# Altium footprint library Pcb库.PcbLib: 37 footprints (part 3 of 3)
Each footprint in its own frame and in the unit in brackets; x right, y up, seen from the top. Pads: shape width x height; smd on the part's side, far side on the other; paste and mask are expansions set on the pad; w line width, h text height; cw(c..) or ccw(c..) is an arc to the next point about the centre after c.
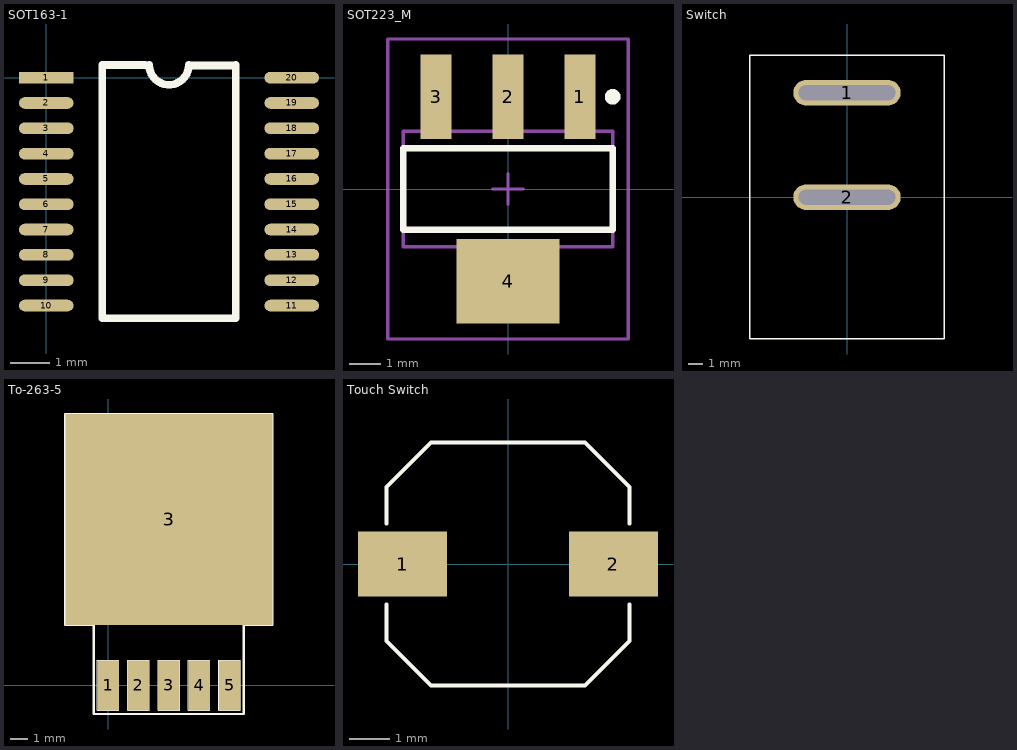
[diagram p2: the footprints below, top view; thin cyan lines are the x and y axes]

## SOT163-1 [mm]
pads (20):
  rect 1.4x0.3 smd: 1(0,0)
  oval 1.4x0.3 smd: 2(0,-0.65) 3(0,-1.3) 4(0,-1.95) 5(0,-2.6) 6(0,-3.25) 7(0,-3.9) 8(0,-4.55) 9(0,-5.2) 10(0,-5.85) 11(6.3,-5.85) 12(6.3,-5.2) 13(6.3,-4.55) 14(6.3,-3.9) 15(6.3,-3.25) 16(6.3,-2.6) 17(6.3,-1.95) 18(6.3,-1.3) 19(6.3,-0.65) 20(6.3,0)
Top Overlay:
  lines w0.2: 2.54,0.325 1.435,0.325 1.435,-6.175 4.865,-6.175 4.865,0.325 ; 2.642,0.325 ccw(c3.15,0.325) 3.658,0.325 ; 3.683,0.31 4.788,0.31

## SOT223_M [mm]
pads (4):
  rect 1x2.7 smd: 1(2.3,2.95) 2(0,2.95) 3(-2.3,2.95)
  rect 3.3x2.7 smd: 4(0,-2.95)
Top Overlay:
  circle w0.25: c3.35,2.95 r0.125
  lines w0.2: -3.35,-1.3 3.35,-1.3 3.35,1.3 -3.35,1.3 -3.35,-1.3
Mechanical 13:
  lines w0.1: -3.35,-1.85 3.35,-1.85 3.35,1.85 -3.35,1.85 -3.35,-1.85
Mechanical 15:
  lines w0.1: -0.5,0 0.5,0 ; 0,-0.5 0,0.5 ; -3.85,-4.8 3.85,-4.8 3.85,4.8 -3.85,4.8 -3.85,-4.8
3D body: height 1.7, standoff 0, extent -3.35,-1.85 3.35,1.85

## Switch [mm]
pads (2):
  oval 7.2x1.7 hole 1 slot 6.5 at 0 deg: 1(0,7) 2(0,0)
Top Overlay:
  lines w0.1: -6.5,-9.5 -6.5,9.5 6.5,9.5 6.5,-9.5 -6.5,-9.5
3D body: height 10, standoff -7, extent -2.5,-0.375 2.5,0.375
3D body: height 10, standoff -7, extent -2.5,6.625 2.5,7.375
3D body: height 15.5, standoff 0, extent -6.5,-9.5 6.5,9.5

## To-263-5 [mm]
pads (6):
  rect 1.203x2.803 smd: 1(0,0) 2(1.7,0) 3(3.4,0) 4(5.1,0) 5(6.8,0)
  rect 11.6x11.8 smd: 3(3.412,9.297)
Top Overlay:
  lines w0.025: -0.6,-1.398 -0.6,1.406 ; -0.6,-1.398 0.604,-1.398 ; -0.6,-1.398 -0.6,1.406 ; -0.6,-1.398 0.604,-1.398 ; -0.6,1.406 0.604,1.406 ; -0.6,1.406 0.604,1.406 ; 0.604,-1.398 0.604,1.406 ; 0.604,-1.398 0.604,1.406 ; 1.1,-1.398 1.1,1.406 ; 1.1,-1.398 2.304,-1.398 ; 1.1,-1.398 1.1,1.406 ; 1.1,-1.398 2.304,-1.398 ; 1.1,1.406 2.304,1.406 ; 1.1,1.406 2.304,1.406 ; 2.304,-1.398 2.304,1.406 ; 2.304,-1.398 2.304,1.406 ; 2.8,-1.398 2.8,1.406 ; 2.8,-1.398 4.004,-1.398 ; 2.8,-1.398 2.8,1.406 ; 2.8,-1.398 4.004,-1.398 ; 2.8,1.406 4.004,1.406 ; 2.8,1.406 4.004,1.406 ; 4.004,-1.398 4.004,1.406 ; 4.004,-1.398 4.004,1.406 ; 4.5,-1.398 4.5,1.406 ; 4.5,-1.398 5.704,-1.398 ; 4.5,-1.398 4.5,1.406 ; 4.5,-1.398 5.704,-1.398 ; 4.5,1.406 5.704,1.406 ; 4.5,1.406 5.704,1.406 ; 5.704,-1.398 5.704,1.406 ; 5.704,-1.398 5.704,1.406 ; 6.2,-1.398 6.2,1.406 ; 6.2,-1.398 7.404,-1.398 ; 6.2,-1.398 6.2,1.406 ; 6.2,-1.398 7.404,-1.398 ; 6.2,1.406 7.404,1.406 ; 6.2,1.406 7.404,1.406 ; 7.404,-1.398 7.404,1.406 ; 7.404,-1.398 7.404,1.406
  lines w0.127: -0.798,15.204 -2.398,15.204 ; -2.398,15.204 -2.398,3.404 -0.798,3.404 -0.798,-1.596 7.602,-1.596 7.602,3.404 9.202,3.404 9.202,15.204 -2.398,15.204
3D body "User Library-D2PAK TO-263-5.STEP": height 4.87, standoff 0, extent -1.651,-0.842 8.509,13.388

## Touch Switch [mm]
pads (2):
  rect 2.2x1.6 smd: 1(-2.6,0) 2(2.6,0)
Top Overlay:
  lines w0.1: -3,-1 -3,-1.9 -1.9,-3 1.9,-3 3,-1.9 3,-1 ; -3,1 -3,1.9 -1.9,3 1.9,3 3,1.9 3,1
3D body: height 1.1, standoff 0, extent 1.9,-0.7 3.35,0.7
3D body: height 1.1, standoff 0, extent -3.35,-0.7 -1.9,0.7
3D body: height 5, standoff 0, extent -2.5,-2.5 2.5,2.5
3D body: height 3.5, standoff 0, extent -3,-3 3,3